# Altium footprint library Altium LCOGT PCB LIB.PCBLIB: 329 footprints (part 18 of 21)
Each footprint in its own frame and in the unit in brackets; x right, y up, seen from the top. Pads: shape width x height; smd on the part's side, far side on the other; paste and mask are expansions set on the pad; w line width, h text height; cw(c..) or ccw(c..) is an arc to the next point about the centre after c.
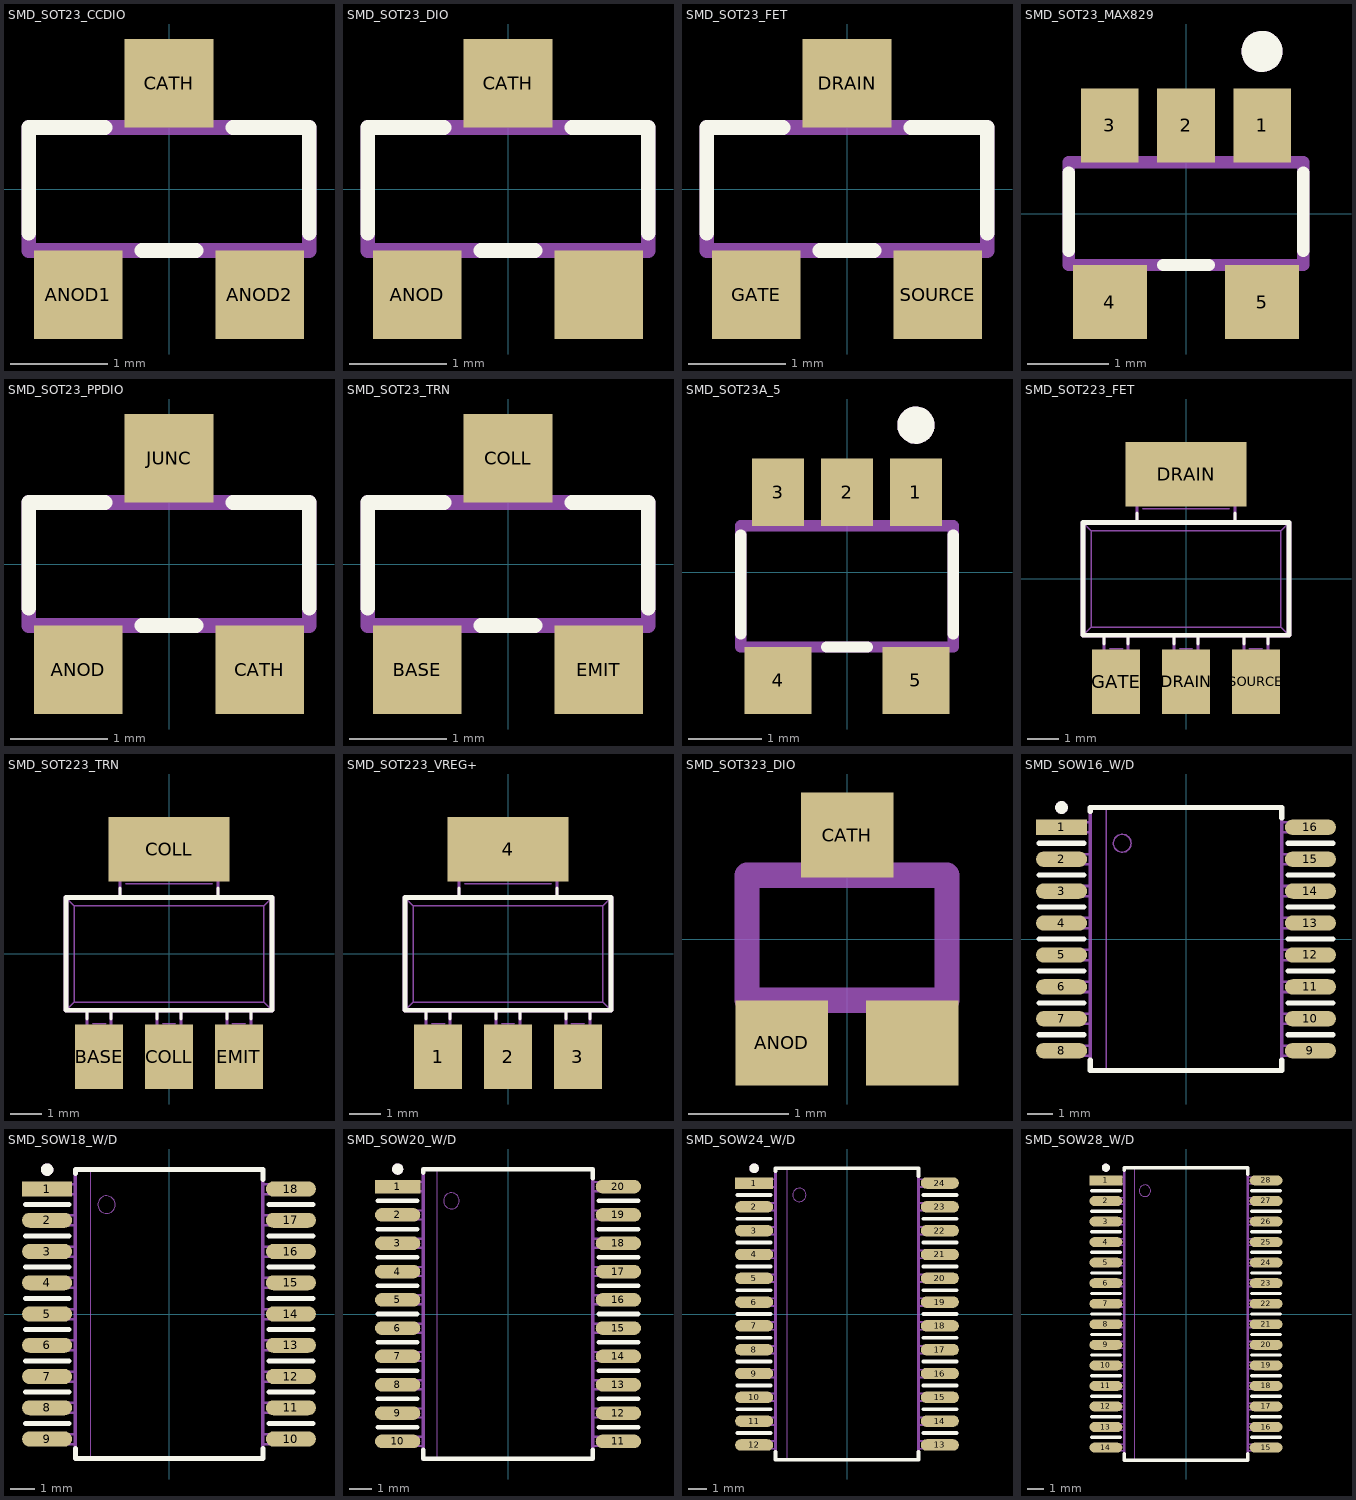
[diagram p17: the footprints below, top view; thin cyan lines are the x and y axes]

## SMD_SOT23_CCDIO [mil]
pads (3):
  rect 36x36 smd: ANOD1(-37,-43) ANOD2(37,-43) CATH(0,43)
TopOverlay:
  lines w6: -57,-18 -57,25 -26,25 ; -11,-25 11,-25 ; 26,25 57,25 57,-18
Mechanical3:
  lines w2: -46,-40 -28,-40 ; -46,-25 -46,-47 -28,-47 -28,-25 ; -41,-34 -33,-34 ; -9,25 -9,47 9,47 9,25 ; -9,40 9,40 ; -4,34 4,34 ; 28,-40 46,-40 ; 28,-25 28,-47 46,-47 46,-25 ; 33,-34 41,-34
  lines w6: -57,-25 57,-25 57,25 -57,25 -57,-25

## SMD_SOT23_DIO [mil]
pads (3):
  rect 36x36 smd: ANOD(-37,-43) CATH(0,43) ""(37,-43)
TopOverlay:
  lines w6: -57,-18 -57,25 -26,25 ; -11,-25 11,-25 ; 26,25 57,25 57,-18
Mechanical3:
  lines w2: -46,-40 -28,-40 ; -46,-25 -46,-47 -28,-47 -28,-25 ; -41,-34 -33,-34 ; -9,25 -9,47 9,47 9,25 ; -9,40 9,40 ; -4,34 4,34 ; 28,-40 46,-40 ; 28,-25 28,-47 46,-47 46,-25 ; 33,-34 41,-34
  lines w6: -57,-25 -57,25 57,25 57,-25 -57,-25

## SMD_SOT23_FET [mil]
pads (3):
  rect 36x36 smd: DRAIN(0,43) GATE(-37,-43) SOURCE(37,-43)
TopOverlay:
  lines w6: -57,-18 -57,25 -26,25 ; -11,-25 11,-25 ; 26,25 57,25 57,-18
Mechanical3:
  lines w2: -46,-40 -28,-40 ; -46,-25 -46,-47 -28,-47 -28,-25 ; -41,-34 -33,-34 ; -9,25 -9,47 9,47 9,25 ; -9,40 9,40 ; -4,34 4,34 ; 28,-40 46,-40 ; 28,-25 28,-47 46,-47 46,-25 ; 33,-34 41,-34
  lines w6: -57,-25 -57,25 57,25 57,-25 -57,-25

## SMD_SOT23_MAX829 [mil]
pads (5):
  rect 28x36 smd: 1(37,43) 2(0,43) 3(-37,43)
  rect 36x36 smd: 4(-37,-43) 5(37,-43)
TopOverlay:
  circle w8: c37,79 r6
  lines w6: -57,-18 -57,20 ; -11,-25 11,-25 ; 57,-18 57,20
  lines w8: 33,79 41,79 ; 37,75 37,83
Mechanical3:
  circle w8: c37,79 r6
  lines w2: -46,-40 -28,-40 ; -46,-25 -46,-47 -28,-47 -28,-25 ; -46,25 -46,47 -28,47 -28,25 ; -46,40 -28,40 ; -41,-34 -33,-34 ; -41,34 -33,34 ; -9,25 -9,47 9,47 9,25 ; -9,40 9,40 ; -4,34 4,34 ; 28,-40 46,-40 ; 28,-25 28,-47 46,-47 46,-25 ; 28,25 28,47 46,47 46,25 ; 28,40 46,40 ; 33,-34 41,-34 ; 33,34 41,34
  lines w6: -57,-25 57,-25 57,25 -57,25 -57,-25
  lines w8: 33,79 41,79 ; 37,75 37,83

## SMD_SOT23_PPDIO [mil]
pads (3):
  rect 36x36 smd: ANOD(-37,-43) CATH(37,-43) JUNC(0,43)
TopOverlay:
  lines w6: -57,-18 -57,25 -26,25 ; -11,-25 11,-25 ; 26,25 57,25 57,-18
Mechanical3:
  lines w2: -46,-40 -28,-40 ; -46,-25 -46,-47 -28,-47 -28,-25 ; -41,-34 -33,-34 ; -9,25 -9,47 9,47 9,25 ; -9,40 9,40 ; -4,34 4,34 ; 28,-40 46,-40 ; 28,-25 28,-47 46,-47 46,-25 ; 33,-34 41,-34
  lines w6: -57,-25 57,-25 57,25 -57,25 -57,-25

## SMD_SOT23_TRN [mil]
pads (3):
  rect 36x36 smd: BASE(-37,-43) COLL(0,43) EMIT(37,-43)
TopOverlay:
  lines w6: -57,-18 -57,25 -26,25 ; -11,-25 11,-25 ; 26,25 57,25 57,-18
Mechanical3:
  lines w2: -46,-40 -28,-40 ; -46,-25 -46,-47 -28,-47 -28,-25 ; -41,-34 -33,-34 ; -9,25 -9,47 9,47 9,25 ; -9,40 9,40 ; -4,34 4,34 ; 28,-40 46,-40 ; 28,-25 28,-47 46,-47 46,-25 ; 33,-34 41,-34
  lines w6: -57,-25 -57,25 57,25 57,-25 -57,-25

## SMD_SOT23A_5 [mil]
pads (5):
  rect 28x36 smd: 1(37,43) 2(0,43) 3(-37,43)
  rect 36x36 smd: 4(-37,-58) 5(37,-58)
TopOverlay:
  circle w8: c37,79 r6
  lines w6: -57,-33 -57,20 ; -11,-40 11,-40 ; 57,-33 57,20
  lines w8: 33,79 41,79 ; 37,75 37,83
Mechanical3:
  circle w8: c37,79 r6
  lines w2: -46,-55 -28,-55 ; -46,-40 -46,-62 -28,-62 -28,-40 ; -46,25 -46,47 -28,47 -28,25 ; -46,40 -28,40 ; -41,-49 -33,-49 ; -41,34 -33,34 ; -9,25 -9,47 9,47 9,25 ; -9,40 9,40 ; -4,34 4,34 ; 28,-55 46,-55 ; 28,-40 28,-62 46,-62 46,-40 ; 28,25 28,47 46,47 46,25 ; 28,40 46,40 ; 33,-49 41,-49 ; 33,34 41,34
  lines w6: -57,-40 57,-40 57,25 -57,25 -57,-25 -57,-40
  lines w8: 33,79 41,79 ; 37,75 37,83

## SMD_SOT223_FET [mil]
pads (4):
  rect 60x80 smd: DRAIN(0,-128) GATE(-87,-128) SOURCE(87,-128)
  rect 150x80 smd: DRAIN(0,130)
TopOverlay:
  lines w4: -102,-81 -102,-70 ; -72,-81 -72,-70 ; -61,70 -61,82 ; -15,-81 -15,-70 ; 15,-81 15,-70 ; 61,70 61,82 ; 72,-81 72,-70 ; 102,-81 102,-70
  lines w6: -128,-70 128,-70 128,70 -128,70 -128,-70
Mechanical3:
  lines w2: -128,-70 -118,-60 ; -128,70 -118,60 ; -95,-87 -79,-87 ; -54,87 54,87 ; -8,-87 8,-87 ; 79,-87 95,-87 ; 128,-70 118,-60 ; 128,70 118,60 ; -118,-60 118,-60 ; -118,-60 -118,60 ; -118,60 118,60 ; 118,-60 118,60
  lines w4: -102,-112 -72,-112 ; -102,-70 -102,-137 -72,-137 -72,-70 ; -61,70 -61,137 61,137 61,70 ; -61,112 61,112 ; -15,-112 15,-112 ; -15,-70 -15,-137 15,-137 15,-70 ; 72,-112 102,-112 ; 72,-70 72,-137 102,-137 102,-70
  lines w6: -128,-70 128,-70 128,70 -128,70 -128,-70

## SMD_SOT223_TRN [mil]
pads (4):
  rect 60x80 smd: BASE(-87,-128) COLL(0,-128) EMIT(87,-128)
  rect 150x80 smd: COLL(0,130)
TopOverlay:
  lines w4: -102,-81 -102,-70 ; -72,-81 -72,-70 ; -61,70 -61,82 ; -15,-81 -15,-70 ; 15,-81 15,-70 ; 61,70 61,82 ; 72,-81 72,-70 ; 102,-81 102,-70
  lines w6: -128,-70 128,-70 128,70 -128,70 -128,-70
Mechanical3:
  lines w2: -128,-70 -118,-60 ; -128,70 -118,60 ; -95,-87 -79,-87 ; -54,87 54,87 ; -8,-87 8,-87 ; 79,-87 95,-87 ; 128,-70 118,-60 ; 128,70 118,60 ; -118,-60 118,-60 ; -118,-60 -118,60 ; -118,60 118,60 ; 118,-60 118,60
  lines w4: -102,-112 -72,-112 ; -102,-70 -102,-137 -72,-137 -72,-70 ; -61,70 -61,137 61,137 61,70 ; -61,112 61,112 ; -15,-112 15,-112 ; -15,-70 -15,-137 15,-137 15,-70 ; 72,-112 102,-112 ; 72,-70 72,-137 102,-137 102,-70
  lines w6: -128,-70 128,-70 128,70 -128,70 -128,-70

## SMD_SOT223_VREG+ [mil]
pads (4):
  rect 60x80 smd: 1(-87,-128) 2(0,-128) 3(87,-128)
  rect 150x80 smd: 4(0,130)
TopOverlay:
  lines w4: -102,-81 -102,-70 ; -72,-81 -72,-70 ; -61,70 -61,82 ; -15,-81 -15,-70 ; 15,-81 15,-70 ; 61,70 61,82 ; 72,-81 72,-70 ; 102,-81 102,-70
  lines w6: -128,-70 -128,70 128,70 128,-70 -128,-70
Mechanical3:
  lines w2: -128,-70 -118,-60 ; -128,70 -118,60 ; -95,-87 -79,-87 ; -54,87 54,87 ; -8,-87 8,-87 ; 79,-87 95,-87 ; 128,-70 118,-60 ; 128,70 118,60 ; -118,-60 -118,60 ; -118,-60 118,-60 ; -118,60 118,60 ; 118,-60 118,60
  lines w4: -102,-112 -72,-112 ; -102,-70 -102,-137 -72,-137 -72,-70 ; -61,70 -61,137 61,137 61,70 ; -61,112 61,112 ; -15,-112 15,-112 ; -15,-70 -15,-137 15,-137 15,-70 ; 72,-112 102,-112 ; 72,-70 72,-137 102,-137 102,-70
  lines w6: -128,-70 -128,70 128,70 128,-70 -128,-70

## SMD_SOT323_DIO [mm]
pads (3):
  rect 0.925x0.85 smd: ANOD(-0.65,-1.038) CATH(0,1.038) ""(0.65,-1.038)
Mechanical3:
  lines w0.254: -1,-0.612 -1,0.638 1,0.638 1,-0.612 -1,-0.612

## SMD_SOW16_W/D [mil]
pads (16):
  rect 80x24 smd: 1(-195,175)
  oval 80x24 smd: 2(-195,125) 3(-195,75) 4(-195,25) 5(-195,-25) 6(-195,-75) 7(-195,-125) 8(-195,-175) 9(195,-175) 10(195,-125) 11(195,-75) 12(195,-25) 13(195,25) 14(195,75) 15(195,125) 16(195,175)
TopOverlay:
  circle w8: c-195,206 r6
  lines w8: -230,-150 -160,-150 ; -230,-100 -160,-100 ; -230,-50 -160,-50 ; -230,0 -160,0 ; -230,50 -160,50 ; -230,100 -160,100 ; -230,150 -160,150 ; -199,206 -191,206 ; -195,202 -195,210 ; -150,-190 -150,-206 150,-206 150,-190 ; -150,200 -150,206 150,206 150,190 ; 160,-150 230,-150 ; 160,-100 230,-100 ; 160,-50 230,-50 ; 160,0 230,0 ; 160,50 230,50 ; 160,100 230,100 ; 160,150 230,150
Mechanical3:
  circle w2: c-100,150 r14
  circle w8: c-195,206 r6
  lines w2: -175,-178 -175,-172 ; -175,-128 -175,-122 ; -175,-78 -175,-72 ; -175,-28 -175,-22 ; -175,22 -175,28 ; -175,72 -175,78 ; -175,122 -175,128 ; -175,172 -175,178 ; -125,-206 -125,206 ; 175,-178 175,-172 ; 175,-128 175,-122 ; 175,-78 175,-72 ; 175,-28 175,-22 ; 175,22 175,28 ; 175,72 175,78 ; 175,122 175,128 ; 175,172 175,178
  lines w4: -185,-183 -185,-167 ; -185,-133 -185,-117 ; -185,-83 -185,-67 ; -185,-33 -185,-17 ; -185,17 -185,33 ; -185,67 -185,83 ; -185,117 -185,133 ; -185,167 -185,183 ; -150,-183 -205,-183 -205,-167 -150,-167 ; -150,-133 -205,-133 -205,-117 -150,-117 ; -150,-83 -205,-83 -205,-67 -150,-67 ; -150,-33 -205,-33 -205,-17 -150,-17 ; -150,17 -205,17 -205,33 -150,33 ; -150,67 -205,67 -205,83 -150,83 ; -150,117 -205,117 -205,133 -150,133 ; -150,167 -205,167 -205,183 -150,183 ; 150,-183 205,-183 205,-167 150,-167 ; 150,-133 205,-133 205,-117 150,-117 ; 150,-83 205,-83 205,-67 150,-67 ; 150,-33 205,-33 205,-17 150,-17 ; 150,17 205,17 205,33 150,33 ; 150,67 205,67 205,83 150,83 ; 150,117 205,117 205,133 150,133 ; 150,167 205,167 205,183 150,183 ; 185,-183 185,-167 ; 185,-133 185,-117 ; 185,-83 185,-67 ; 185,-33 185,-17 ; 185,17 185,33 ; 185,67 185,83 ; 185,117 185,133 ; 185,167 185,183
  lines w6: -150,-206 -150,206 150,206 150,-206 -150,-206
  lines w8: -199,206 -191,206 ; -195,202 -195,210

## SMD_SOW18_W/D [mil]
pads (18):
  rect 80x24 smd: 1(-195,200)
  oval 80x24 smd: 2(-195,150) 3(-195,100) 4(-195,50) 5(-195,0) 6(-195,-50) 7(-195,-100) 8(-195,-150) 9(-195,-200) 10(195,-200) 11(195,-150) 12(195,-100) 13(195,-50) 14(195,0) 15(195,50) 16(195,100) 17(195,150) 18(195,200)
TopOverlay:
  circle w8: c-195,231 r6
  lines w8: -230,-175 -160,-175 ; -230,-125 -160,-125 ; -230,-75 -160,-75 ; -230,-25 -160,-25 ; -230,25 -160,25 ; -230,75 -160,75 ; -230,125 -160,125 ; -230,175 -160,175 ; -199,231 -191,231 ; -195,227 -195,235 ; -150,-215 -150,-231 150,-231 150,-215 ; -150,225 -150,231 150,231 150,215 ; 160,-175 230,-175 ; 160,-125 230,-125 ; 160,-75 230,-75 ; 160,-25 230,-25 ; 160,25 230,25 ; 160,75 230,75 ; 160,125 230,125 ; 160,175 230,175
Mechanical3:
  circle w8: c-195,231 r6
  circle w2: c-100,175 r14
  lines w2: -175,-203 -175,-197 ; -175,-153 -175,-147 ; -175,-103 -175,-97 ; -175,-53 -175,-47 ; -175,-3 -175,3 ; -175,47 -175,53 ; -175,97 -175,103 ; -175,147 -175,153 ; -175,197 -175,203 ; -125,-231 -125,231 ; 175,-203 175,-197 ; 175,-153 175,-147 ; 175,-103 175,-97 ; 175,-53 175,-47 ; 175,-3 175,3 ; 175,47 175,53 ; 175,97 175,103 ; 175,147 175,153 ; 175,197 175,203
  lines w4: -185,-208 -185,-192 ; -185,-158 -185,-142 ; -185,-108 -185,-92 ; -185,-58 -185,-42 ; -185,-8 -185,8 ; -185,42 -185,58 ; -185,92 -185,108 ; -185,142 -185,158 ; -185,192 -185,208 ; -150,-208 -205,-208 -205,-192 -150,-192 ; -150,-158 -205,-158 -205,-142 -150,-142 ; -150,-108 -205,-108 -205,-92 -150,-92 ; -150,-58 -205,-58 -205,-42 -150,-42 ; -150,-8 -205,-8 -205,8 -150,8 ; -150,42 -205,42 -205,58 -150,58 ; -150,92 -205,92 -205,108 -150,108 ; -150,142 -205,142 -205,158 -150,158 ; -150,192 -205,192 -205,208 -150,208 ; 150,-208 205,-208 205,-192 150,-192 ; 150,-158 205,-158 205,-142 150,-142 ; 150,-108 205,-108 205,-92 150,-92 ; 150,-58 205,-58 205,-42 150,-42 ; 150,-8 205,-8 205,8 150,8 ; 150,42 205,42 205,58 150,58 ; 150,92 205,92 205,108 150,108 ; 150,142 205,142 205,158 150,158 ; 150,192 205,192 205,208 150,208 ; 185,-208 185,-192 ; 185,-158 185,-142 ; 185,-108 185,-92 ; 185,-58 185,-42 ; 185,-8 185,8 ; 185,42 185,58 ; 185,92 185,108 ; 185,142 185,158 ; 185,192 185,208
  lines w6: -150,-231 150,-231 150,231 -150,231 -150,-231
  lines w8: -199,231 -191,231 ; -195,227 -195,235

## SMD_SOW20_W/D [mil]
pads (20):
  rect 80x24 smd: 1(-195,225)
  oval 80x24 smd: 2(-195,175) 3(-195,125) 4(-195,75) 5(-195,25) 6(-195,-25) 7(-195,-75) 8(-195,-125) 9(-195,-175) 10(-195,-225) 11(195,-225) 12(195,-175) 13(195,-125) 14(195,-75) 15(195,-25) 16(195,25) 17(195,75) 18(195,125) 19(195,175) 20(195,225)
TopOverlay:
  circle w8: c-195,256 r6
  lines w8: -230,-200 -160,-200 ; -230,-150 -160,-150 ; -230,-100 -160,-100 ; -230,-50 -160,-50 ; -230,0 -160,0 ; -230,50 -160,50 ; -230,100 -160,100 ; -230,150 -160,150 ; -230,200 -160,200 ; -199,256 -191,256 ; -195,252 -195,260 ; -150,-240 -150,-256 150,-256 150,-240 ; -150,250 -150,256 150,256 150,240 ; 160,-200 230,-200 ; 160,-150 230,-150 ; 160,-100 230,-100 ; 160,-50 230,-50 ; 160,0 230,0 ; 160,50 230,50 ; 160,100 230,100 ; 160,150 230,150 ; 160,200 230,200
Mechanical3:
  circle w8: c-195,256 r6
  circle w2: c-100,200 r14
  lines w2: -175,-228 -175,-222 ; -175,-178 -175,-172 ; -175,-128 -175,-122 ; -175,-78 -175,-72 ; -175,-28 -175,-22 ; -175,22 -175,28 ; -175,72 -175,78 ; -175,122 -175,128 ; -175,172 -175,178 ; -175,222 -175,228 ; -125,-256 -125,256 ; 175,-228 175,-222 ; 175,-178 175,-172 ; 175,-128 175,-122 ; 175,-78 175,-72 ; 175,-28 175,-22 ; 175,22 175,28 ; 175,72 175,78 ; 175,122 175,128 ; 175,172 175,178 ; 175,222 175,228
  lines w4: -185,-233 -185,-217 ; -185,-183 -185,-167 ; -185,-133 -185,-117 ; -185,-83 -185,-67 ; -185,-33 -185,-17 ; -185,17 -185,33 ; -185,67 -185,83 ; -185,117 -185,133 ; -185,167 -185,183 ; -185,217 -185,233 ; -150,-233 -205,-233 -205,-217 -150,-217 ; -150,-183 -205,-183 -205,-167 -150,-167 ; -150,-133 -205,-133 -205,-117 -150,-117 ; -150,-83 -205,-83 -205,-67 -150,-67 ; -150,-33 -205,-33 -205,-17 -150,-17 ; -150,17 -205,17 -205,33 -150,33 ; -150,67 -205,67 -205,83 -150,83 ; -150,117 -205,117 -205,133 -150,133 ; -150,167 -205,167 -205,183 -150,183 ; -150,217 -205,217 -205,233 -150,233 ; 150,-233 205,-233 205,-217 150,-217 ; 150,-183 205,-183 205,-167 150,-167 ; 150,-133 205,-133 205,-117 150,-117 ; 150,-83 205,-83 205,-67 150,-67 ; 150,-33 205,-33 205,-17 150,-17 ; 150,17 205,17 205,33 150,33 ; 150,67 205,67 205,83 150,83 ; 150,117 205,117 205,133 150,133 ; 150,167 205,167 205,183 150,183 ; 150,217 205,217 205,233 150,233 ; 185,-233 185,-217 ; 185,-183 185,-167 ; 185,-133 185,-117 ; 185,-83 185,-67 ; 185,-33 185,-17 ; 185,17 185,33 ; 185,67 185,83 ; 185,117 185,133 ; 185,167 185,183 ; 185,217 185,233
  lines w6: -150,-256 150,-256 150,256 -150,256 -150,-256
  lines w8: -199,256 -191,256 ; -195,252 -195,260

## SMD_SOW24_W/D [mil]
pads (24):
  rect 80x24 smd: 1(-195,275)
  oval 80x24 smd: 2(-195,225) 3(-195,175) 4(-195,125) 5(-195,75) 6(-195,25) 7(-195,-25) 8(-195,-75) 9(-195,-125) 10(-195,-175) 11(-195,-225) 12(-195,-275) 13(195,-275) 14(195,-225) 15(195,-175) 16(195,-125) 17(195,-75) 18(195,-25) 19(195,25) 20(195,75) 21(195,125) 22(195,175) 23(195,225) 24(195,275)
TopOverlay:
  circle w8: c-195,306 r6
  lines w8: -230,-250 -160,-250 ; -230,-200 -160,-200 ; -230,-150 -160,-150 ; -230,-100 -160,-100 ; -230,-50 -160,-50 ; -230,0 -160,0 ; -230,50 -160,50 ; -230,100 -160,100 ; -230,150 -160,150 ; -230,200 -160,200 ; -230,250 -160,250 ; -199,306 -191,306 ; -195,302 -195,310 ; -150,-290 -150,-306 150,-306 150,-290 ; -150,300 -150,306 150,306 150,290 ; 160,-250 230,-250 ; 160,-200 230,-200 ; 160,-150 230,-150 ; 160,-100 230,-100 ; 160,-50 230,-50 ; 160,0 230,0 ; 160,50 230,50 ; 160,100 230,100 ; 160,150 230,150 ; 160,200 230,200 ; 160,250 230,250
Mechanical3:
  circle w8: c-195,306 r6
  circle w2: c-100,250 r14
  lines w2: -175,-278 -175,-272 ; -175,-228 -175,-222 ; -175,-178 -175,-172 ; -175,-128 -175,-122 ; -175,-78 -175,-72 ; -175,-28 -175,-22 ; -175,22 -175,28 ; -175,72 -175,78 ; -175,122 -175,128 ; -175,172 -175,178 ; -175,222 -175,228 ; -175,272 -175,278 ; -125,-306 -125,306 ; 175,-278 175,-272 ; 175,-228 175,-222 ; 175,-178 175,-172 ; 175,-128 175,-122 ; 175,-78 175,-72 ; 175,-28 175,-22 ; 175,22 175,28 ; 175,72 175,78 ; 175,122 175,128 ; 175,172 175,178 ; 175,222 175,228 ; 175,272 175,278
  lines w4: -185,-283 -185,-267 ; -185,-233 -185,-217 ; -185,-183 -185,-167 ; -185,-133 -185,-117 ; -185,-83 -185,-67 ; -185,-33 -185,-17 ; -185,17 -185,33 ; -185,67 -185,83 ; -185,117 -185,133 ; -185,167 -185,183 ; -185,217 -185,233 ; -185,267 -185,283 ; -150,-283 -205,-283 -205,-267 -150,-267 ; -150,-233 -205,-233 -205,-217 -150,-217 ; -150,-183 -205,-183 -205,-167 -150,-167 ; -150,-133 -205,-133 -205,-117 -150,-117 ; -150,-83 -205,-83 -205,-67 -150,-67 ; -150,-33 -205,-33 -205,-17 -150,-17 ; -150,17 -205,17 -205,33 -150,33 ; -150,67 -205,67 -205,83 -150,83 ; -150,117 -205,117 -205,133 -150,133 ; -150,167 -205,167 -205,183 -150,183 ; -150,217 -205,217 -205,233 -150,233 ; -150,267 -205,267 -205,283 -150,283 ; 150,-283 205,-283 205,-267 150,-267 ; 150,-233 205,-233 205,-217 150,-217 ; 150,-183 205,-183 205,-167 150,-167 ; 150,-133 205,-133 205,-117 150,-117 ; 150,-83 205,-83 205,-67 150,-67 ; 150,-33 205,-33 205,-17 150,-17 ; 150,17 205,17 205,33 150,33 ; 150,67 205,67 205,83 150,83 ; 150,117 205,117 205,133 150,133 ; 150,167 205,167 205,183 150,183 ; 150,217 205,217 205,233 150,233 ; 150,267 205,267 205,283 150,283 ; 185,-283 185,-267 ; 185,-233 185,-217 ; 185,-183 185,-167 ; 185,-133 185,-117 ; 185,-83 185,-67 ; 185,-33 185,-17 ; 185,17 185,33 ; 185,67 185,83 ; 185,117 185,133 ; 185,167 185,183 ; 185,217 185,233 ; 185,267 185,283
  lines w6: -150,-306 -150,306 150,306 150,-306 -150,-306
  lines w8: -199,306 -191,306 ; -195,302 -195,310

## SMD_SOW28_W/D [mil]
pads (28):
  rect 80x24 smd: 1(-195,325)
  oval 80x24 smd: 2(-195,275) 3(-195,225) 4(-195,175) 5(-195,125) 6(-195,75) 7(-195,25) 8(-195,-25) 9(-195,-75) 10(-195,-125) 11(-195,-175) 12(-195,-225) 13(-195,-275) 14(-195,-325) 15(195,-325) 16(195,-275) 17(195,-225) 18(195,-175) 19(195,-125) 20(195,-75) 21(195,-25) 22(195,25) 23(195,75) 24(195,125) 25(195,175) 26(195,225) 27(195,275) 28(195,325)
TopOverlay:
  circle w8: c-195,356 r6
  lines w8: -230,-300 -160,-300 ; -230,-250 -160,-250 ; -230,-200 -160,-200 ; -230,-150 -160,-150 ; -230,-100 -160,-100 ; -230,-50 -160,-50 ; -230,0 -160,0 ; -230,50 -160,50 ; -230,100 -160,100 ; -230,150 -160,150 ; -230,200 -160,200 ; -230,250 -160,250 ; -230,300 -160,300 ; -199,356 -191,356 ; -195,352 -195,360 ; -150,-340 -150,-356 150,-356 150,-340 ; -150,350 -150,356 150,356 150,340 ; 160,-300 230,-300 ; 160,-250 230,-250 ; 160,-200 230,-200 ; 160,-150 230,-150 ; 160,-100 230,-100 ; 160,-50 230,-50 ; 160,0 230,0 ; 160,50 230,50 ; 160,100 230,100 ; 160,150 230,150 ; 160,200 230,200 ; 160,250 230,250 ; 160,300 230,300
Mechanical3:
  circle w2: c-100,300 r14
  circle w8: c-195,356 r6
  lines w2: -175,-328 -175,-322 ; -175,-278 -175,-272 ; -175,-228 -175,-222 ; -175,-178 -175,-172 ; -175,-128 -175,-122 ; -175,-78 -175,-72 ; -175,-28 -175,-22 ; -175,22 -175,28 ; -175,72 -175,78 ; -175,122 -175,128 ; -175,172 -175,178 ; -175,222 -175,228 ; -175,272 -175,278 ; -175,322 -175,328 ; -125,-356 -125,356 ; 175,-328 175,-322 ; 175,-278 175,-272 ; 175,-228 175,-222 ; 175,-178 175,-172 ; 175,-128 175,-122 ; 175,-78 175,-72 ; 175,-28 175,-22 ; 175,22 175,28 ; 175,72 175,78 ; 175,122 175,128 ; 175,172 175,178 ; 175,222 175,228 ; 175,272 175,278 ; 175,322 175,328
  lines w4: -185,-333 -185,-317 ; -185,-283 -185,-267 ; -185,-233 -185,-217 ; -185,-183 -185,-167 ; -185,-133 -185,-117 ; -185,-83 -185,-67 ; -185,-33 -185,-17 ; -185,17 -185,33 ; -185,67 -185,83 ; -185,117 -185,133 ; -185,167 -185,183 ; -185,217 -185,233 ; -185,267 -185,283 ; -185,317 -185,333 ; -150,-333 -205,-333 -205,-317 -150,-317 ; -150,-283 -205,-283 -205,-267 -150,-267 ; -150,-233 -205,-233 -205,-217 -150,-217 ; -150,-183 -205,-183 -205,-167 -150,-167 ; -150,-133 -205,-133 -205,-117 -150,-117 ; -150,-83 -205,-83 -205,-67 -150,-67 ; -150,-33 -205,-33 -205,-17 -150,-17 ; -150,17 -205,17 -205,33 -150,33 ; -150,67 -205,67 -205,83 -150,83 ; -150,117 -205,117 -205,133 -150,133 ; -150,167 -205,167 -205,183 -150,183 ; -150,217 -205,217 -205,233 -150,233 ; -150,267 -205,267 -205,283 -150,283 ; -150,317 -205,317 -205,333 -150,333 ; 150,-333 205,-333 205,-317 150,-317 ; 150,-283 205,-283 205,-267 150,-267 ; 150,-233 205,-233 205,-217 150,-217 ; 150,-183 205,-183 205,-167 150,-167 ; 150,-133 205,-133 205,-117 150,-117 ; 150,-83 205,-83 205,-67 150,-67 ; 150,-33 205,-33 205,-17 150,-17 ; 150,17 205,17 205,33 150,33 ; 150,67 205,67 205,83 150,83 ; 150,117 205,117 205,133 150,133 ; 150,167 205,167 205,183 150,183 ; 150,217 205,217 205,233 150,233 ; 150,267 205,267 205,283 150,283 ; 150,317 205,317 205,333 150,333 ; 185,-333 185,-317 ; 185,-283 185,-267 ; 185,-233 185,-217 ; 185,-183 185,-167 ; 185,-133 185,-117 ; 185,-83 185,-67 ; 185,-33 185,-17 ; 185,17 185,33 ; 185,67 185,83 ; 185,117 185,133 ; 185,167 185,183 ; 185,217 185,233 ; 185,267 185,283 ; 185,317 185,333
  lines w6: -150,-356 150,-356 150,356 -150,356 -150,-356
  lines w8: -199,356 -191,356 ; -195,352 -195,360